# Altium footprint library TE_282834-2.PcbLib: 1 footprints
Each footprint in its own frame and in the unit in brackets; x right, y up, seen from the top. Pads: shape width x height; smd on the part's side, far side on the other; paste and mask are expansions set on the pad; w line width, h text height; cw(c..) or ccw(c..) is an arc to the next point about the centre after c.
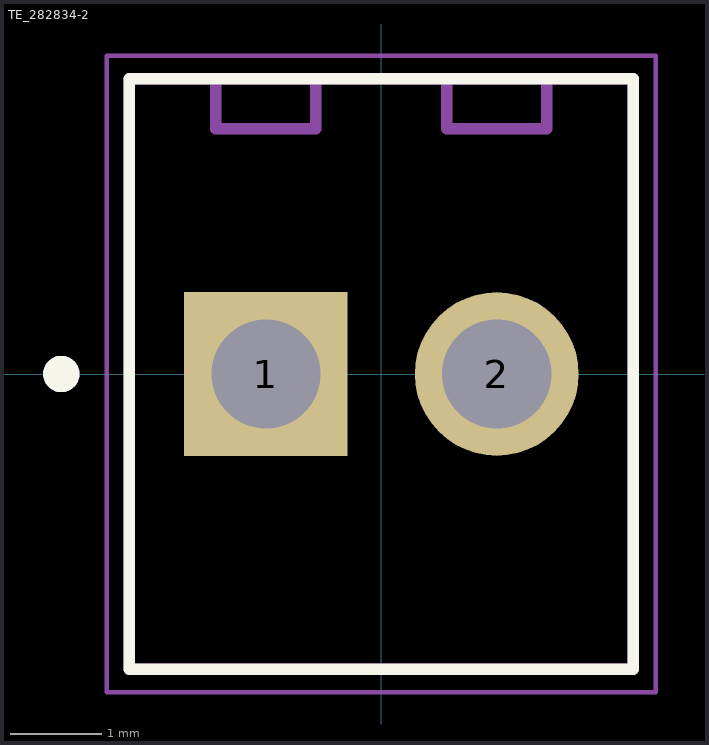
[diagram p0: the footprint, top view; thin cyan lines are the x and y axes]

## TE_282834-2 [mm]
height 10
pads (2):
  rect 1.8x1.8 / inner round 1.8 / far side rect 1.8x1.8 hole 1.2: 1(-1.27,0)
  round 1.8 hole 1.2: 2(1.27,0)
Top Overlay:
  circle w0.2: c-3.52,0 r0.1
  lines w0.127: -2.77,-3.25 2.77,-3.25 2.77,3.25 -2.77,3.25 -2.77,-3.25
Assembly Top:
  circle w0.2: c-3.52,0 r0.1
  lines w0.127: -1.82,3.2 -1.82,2.7 -0.72,2.7 -0.72,3.2 ; 0.72,3.2 0.72,2.7 1.82,2.7 1.82,3.2 ; -2.77,-3.25 2.77,-3.25 2.77,3.25 -2.77,3.25 -2.77,-3.25
Courtyard Top:
  lines w0.05: -3.02,-3.5 -3.02,3.5 3.02,3.5 3.02,-3.5 -3.02,-3.5
3D body "step_temp.STEP": height 10, standoff -3.4, extent -2.77,-3.25 2.77,3.25